# Altium footprint library PCB_Antenna_24GHz.PcbLib: 1 footprints
Each footprint in its own frame and in the unit in brackets; x right, y up, seen from the top. Pads: shape width x height; smd on the part's side, far side on the other; paste and mask are expansions set on the pad; w line width, h text height; cw(c..) or ccw(c..) is an arc to the next point about the centre after c.
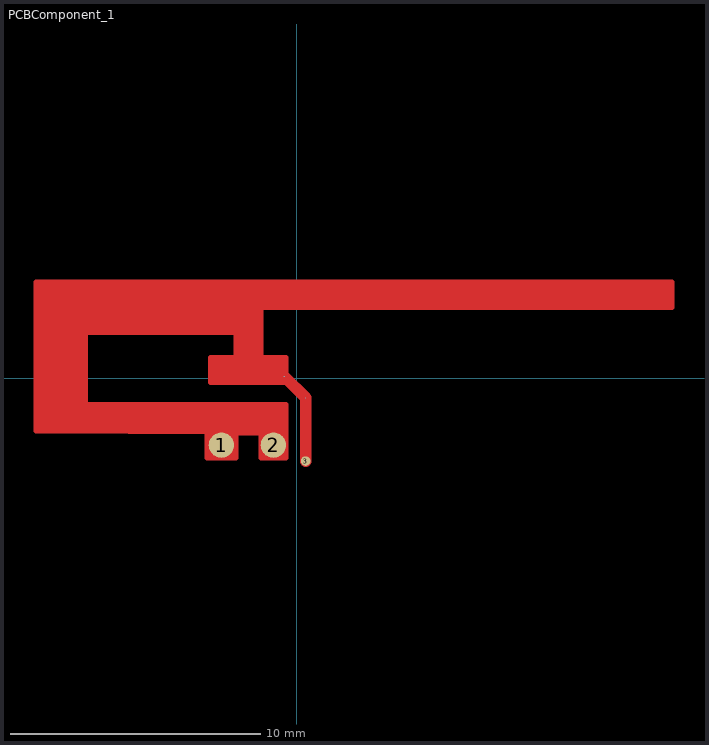
[diagram p0: the footprint, top view; thin cyan lines are the x and y axes]

## PCBComponent_1 [mil]
pads (7):
  round 40 smd: 1(-118.37,-105) 2(-36.69,-105)
  round 0.5 smd: 1(-19.61,2.87) 1(14,-130) 1(14,-30.74) 1(14,-30.74)
  round 15 smd: 3(14,-130)
Top Layer:
  lines w8: -410,-81 -17,-81 ; -410,-73 -17,-73 ; -410,-65 -17,-65 ; -410,-57 -17,-57 ; -410,-49 -17,-49 ; -410,-41 -17,-41 ; -410,-33 -331.96,-33 ; -410,-25 -331.96,-25 ; -410,-17 -331.96,-17 ; -410,-9 -331.96,-9 ; -410,-1 -331.96,-1 ; -410,7 -331.96,7 ; -410,15 -331.96,15 ; -410,23 -331.96,23 ; -410,31 -331.96,31 ; -410,39 -331.96,39 ; -410,47 -331.96,47 ; -410,55 -331.96,55 ; -410,63 -331.96,63 ; -410,71 -331.96,71 ; -410,79 -56.37,79 ; -410,87 -56.37,87 ; -410,95 -56.37,95 ; -410,103 -56.37,103 ; -410,111 -56.37,111 ; -410,119 590,119 ; -410,127 590,127 ; -410,135 590,135 ; -410,143 590,143 ; -141,-121 -95.74,-121 ; -141,-113 -95.74,-113 ; -141,-105 -95.74,-105 ; -141,-97 -95.74,-97 ; -141,-89 -95.74,-89 ; -135.11,-1 -17,-1 ; -135.11,7 -17,7 ; -135.11,15 -17,15 ; -135.11,23 -17,23 ; -135.11,31 -17,31 ; -95.74,39 -56.37,39 ; -95.74,47 -56.37,47 ; -95.74,55 -56.37,55 ; -95.74,63 -56.37,63 ; -95.74,71 -56.37,71 ; -56.37,-121 -17,-121 ; -56.37,-113 -17,-113 ; -56.37,-105 -17,-105 ; -56.37,-97 -17,-97 ; -56.37,-89 -17,-89 ; -17,-41 -331.96,-41 -331.96,71.85 -95.74,71.85 -95.74,32.48 -135.11,32.48 -135.11,-6.89 -17,-6.89 -17,32.48 -56.37,32.48 -56.37,111.22 590,111.22 590,151 -410,151 -410,-83 -389,-83 -141,-84 -141,-125 -95.74,-125 -95.74,-85.63 -56.37,-85.63 -56.37,-125 -17,-125 -17,-41
  lines w18: -19.61,2.87 14,-30.74 14,-130